# Altium footprint library passives.PCBLIB: 93 footprints (part 1 of 6)
Each footprint in its own frame and in the unit in brackets; x right, y up, seen from the top. Pads: shape width x height; smd on the part's side, far side on the other; paste and mask are expansions set on the pad; w line width, h text height; cw(c..) or ccw(c..) is an arc to the next point about the centre after c.
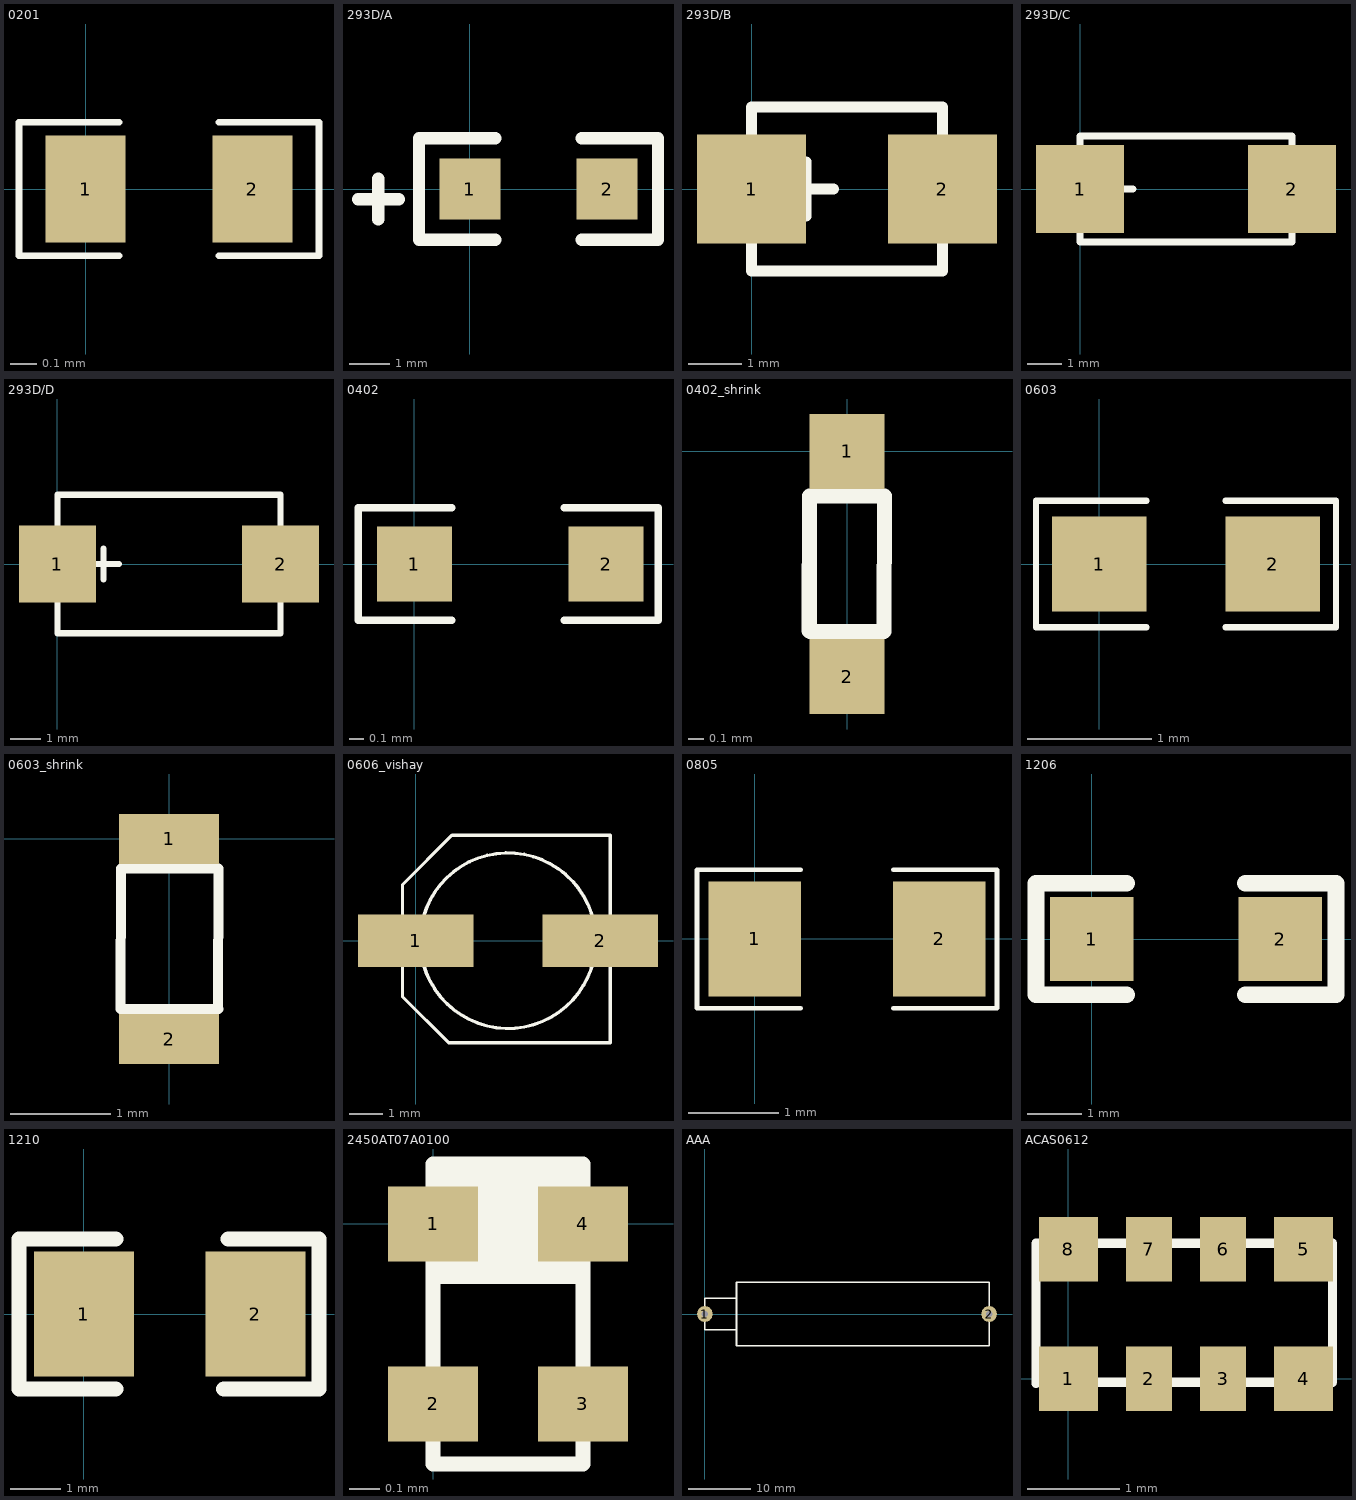
[diagram p0: the footprints below, top view; thin cyan lines are the x and y axes]

## 0201 [mil]
pads (2):
  rect 12x16 smd: 1(0,0) 2(25,0)
Top Overlay:
  lines w1: 5,-10 -10,-10 -10,10 5,10 ; 20,-10 35,-10 35,10 20,10

## 293D/A [mil]
pads (2):
  rect 60x60 smd: 1(0,0) 2(135,0)
Top Overlay:
  lines w12: -110,-10 -70,-10 ; -90,-30 -90,10 ; 25,-50 -50,-50 -50,50 25,50 ; 110,-50 185,-50 185,50 110,50

## 293D/B [mil]
pads (2):
  rect 80x80 smd: 1(0,0) 2(140,0)
Top Overlay:
  lines w8: 20,0 60,0 ; 40,-20 40,20 ; 0,-60 140,-60 140,60 0,60 0,-60

## 293D/C [mil]
pads (2):
  rect 100x100 smd: 1(0,0) 2(240,0)
Top Overlay:
  lines w8: 20,0 60,0 ; 40,-20 40,20 ; 0,-60 0,60 240,60 240,-60 0,-60

## 293D/D [mil]
pads (2):
  rect 100x100 smd: 1(0,0) 2(290,0)
Top Overlay:
  lines w8: 40,0 80,0 ; 60,-20 60,20 ; 0,-90 290,-90 290,90 0,90 0,-90

## 0402 [mil]
pads (2):
  rect 20x20 smd: 1(0,0) 2(51.18,0)
Top Overlay:
  lines w2: 10,-15 -15,-15 -15,15 10,15 ; 40,-15 65,-15 65,15 40,15

## 0402_shrink [mm]
pads (2):
  rect 0.5x0.5 smd: 1(0,0) 2(0,-1.5)
Top Overlay:
  lines w0.102: -0.253,-1.195 -0.251,-0.296 ; -0.248,-1.2 0.246,-1.2 0.248,-0.301 ; -0.245,-0.297 0.249,-0.297

## 0603 [mil]
pads (2):
  rect 30x30 smd: 1(0,0) 2(55,0)
Top Overlay:
  lines w2: 15,-20 -20,-20 -20,20 15,20 ; 40,-20 75,-20 75,20 40,20

## 0603_shrink [mm]
pads (2):
  rect 1x0.5 smd: 1(0,0) 2(0,-2.002)
Top Overlay:
  lines w0.102: 0.491,-1.701 0.494,-0.297 ; 0.494,-1.701 -0.485,-1.701 -0.482,-0.297 0.497,-0.297

## 0606_vishay [mm]
pads (2):
  rect 3.5x1.6 smd: 1(0,0) 2(5.6,0)
Top Overlay:
  circle w0.1: c2.8,0 r2.663
  lines w0.1: -0.4,-1.7 -0.4,1.7 1.1,3.2 5.9,3.2 5.9,-3.1 1,-3.1 -0.4,-1.7

## 0805 [mil]
pads (2):
  rect 40x50 smd: 1(0,0) 2(80,0)
Top Overlay:
  lines w2: 20,-30 -25,-30 -25,30 20,30 ; 60,-30 105,-30 105,30 60,30

## 1206 [mil]
pads (2):
  rect 60x60 smd: 1(0,0) 2(135,0)
Top Overlay:
  lines w12: 25,-40 -40,-40 -40,40 25,40 ; 110,-40 175,-40 175,40 110,40

## 1210 [mm]
pads (2):
  rect 2x2.5 smd: 1(0,0) 2(3.429,0)
Top Overlay:
  lines w0.305: 0.635,-1.5 -1.3,-1.5 -1.3,1.5 0.635,1.5 ; 2.794,-1.5 4.7,-1.5 4.7,1.5 3.3,1.5 2.887,1.5

## 2450AT07A0100 [mm]
pads (4):
  rect 0.3x0.25 smd: 1(0,0) 2(0,-0.6) 3(0.5,-0.6) 4(0.5,0)
Top Overlay:
  rectangle: 0,-0.2 0.5,0.2
  lines w0.05: 0,-0.8 0.5,-0.8 0.5,0.2 0,0.2 0,-0.8

## AAA [mil]
pads (2):
  round 100 hole 40: 1(0,0) 2(1800,0)
Top Overlay:
  lines w10: 200,-100 0,-100 0,100 200,100 ; 200,-200 200,200 1800,200 1800,-200 1400,-200 1000,-200 600,-200 200,-200

## ACAS0612 [mm]
height 0.55
pads (8):
  rect 0.64x0.7 smd: 1(0,0) 4(2.54,0) 5(2.54,1.4) 8(0,1.4)
  rect 0.5x0.7 smd: 2(0.87,0) 3(1.67,0) 6(1.67,1.4) 7(0.87,1.4)
Top Overlay:
  lines w0.1: -0.35,-0.05 -0.35,1.45 ; -0.349,-0.036 2.851,-0.036 2.851,1.464 -0.349,1.464